# Altium schematic symbol library Schlib_RaspberryPi.SchLib: 2 symbols
Pins are listed as number, name and electrical type; pins without a type are passive.

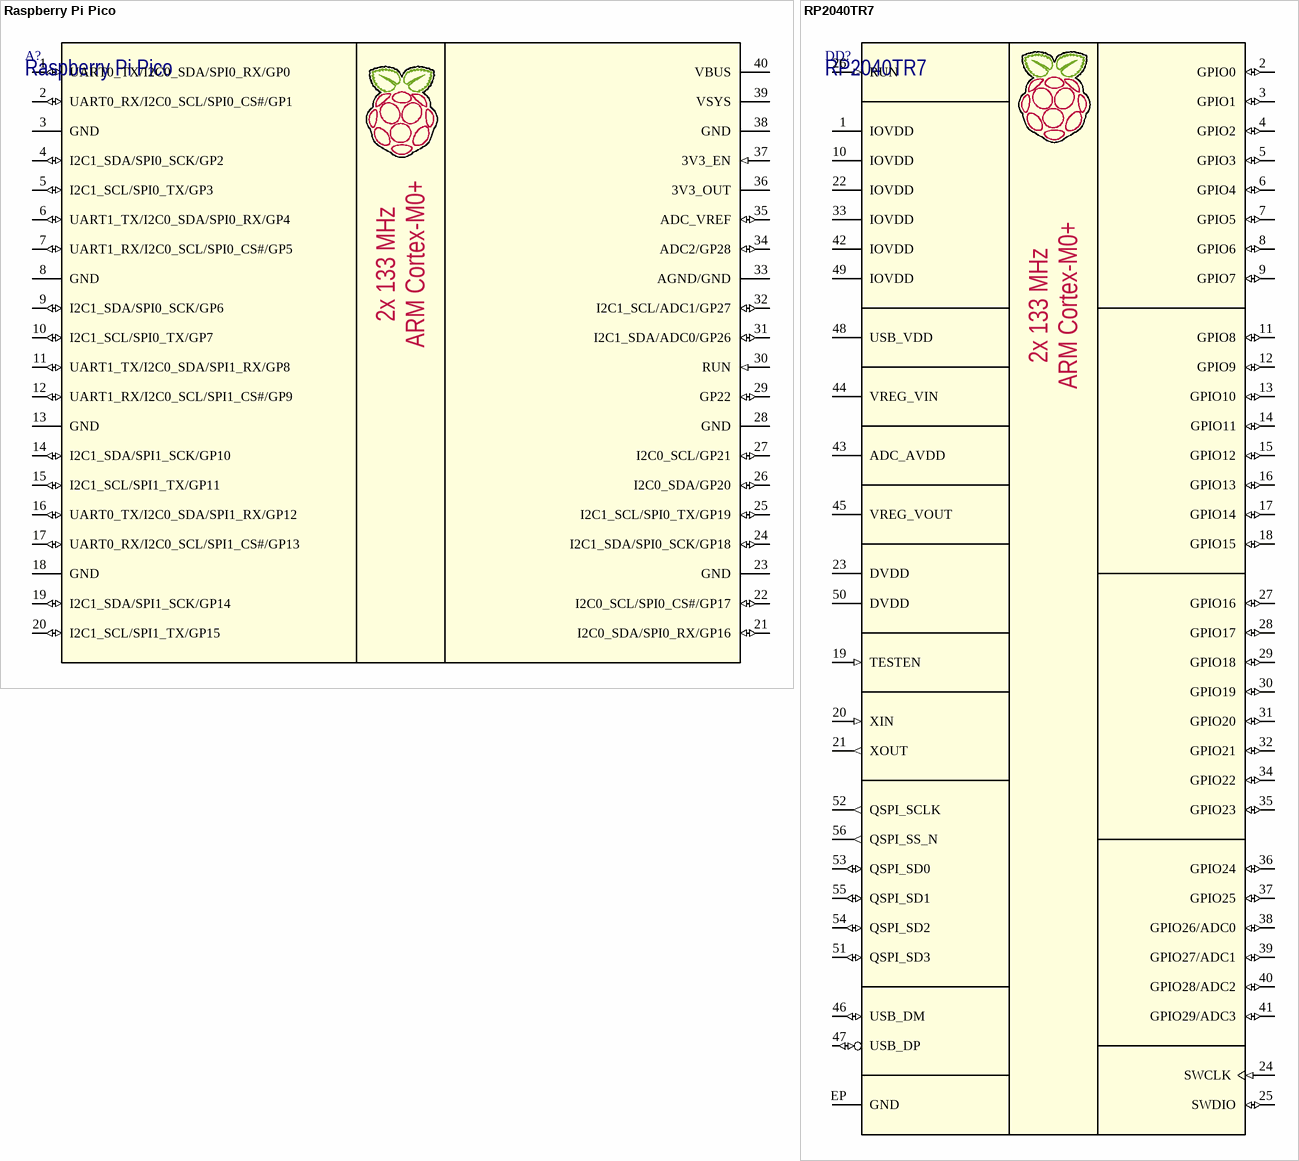
[diagram p0: symbols Raspberry Pi Pico to RP2040TR7]

## Raspberry Pi Pico
designator A?
Board Raspberry Pi Pico; Part Number: Raspberry Pi Pico; Manufacturer: Raspberry Pi
footprint Raspberry_Pi_Pico
pins: 1 UART0_TX/I2C0_SDA/SPI0_RX/GP0 (io), 2 UART0_RX/I2C0_SCL/SPI0_CS#/GP1 (io), 3 GND (power), 4 I2C1_SDA/SPI0_SCK/GP2 (io), 5 I2C1_SCL/SPI0_TX/GP3 (io), 6 UART1_TX/I2C0_SDA/SPI0_RX/GP4 (io), 7 UART1_RX/I2C0_SCL/SPI0_CS#/GP5 (io), 8 GND (power), 9 I2C1_SDA/SPI0_SCK/GP6 (io), 10 I2C1_SCL/SPI0_TX/GP7 (io), 11 UART1_TX/I2C0_SDA/SPI1_RX/GP8 (io), 12 UART1_RX/I2C0_SCL/SPI1_CS#/GP9 (io), 13 GND (power), 14 I2C1_SDA/SPI1_SCK/GP10 (io), 15 I2C1_SCL/SPI1_TX/GP11 (io), 16 UART0_TX/I2C0_SDA/SPI1_RX/GP12 (io), 17 UART0_RX/I2C0_SCL/SPI1_CS#/GP13 (io), 18 GND (power), 19 I2C1_SDA/SPI1_SCK/GP14 (io), 20 I2C1_SCL/SPI1_TX/GP15 (io), 21 I2C0_SDA/SPI0_RX/GP16 (io), 22 I2C0_SCL/SPI0_CS#/GP17 (io), 23 GND (power), 24 I2C1_SDA/SPI0_SCK/GP18 (io), 25 I2C1_SCL/SPI0_TX/GP19 (io), 26 I2C0_SDA/GP20 (io), 27 I2C0_SCL/GP21 (io), 28 GND (power), 29 GP22 (io), 30 RUN (in), 31 I2C1_SDA/ADC0/GP26 (io), 32 I2C1_SCL/ADC1/GP27 (io), 33 AGND/GND (power), 34 ADC2/GP28 (io), 35 ADC_VREF (io), 36 3V3_OUT (power), 37 3V3_EN (in), 38 GND (power), 39 VSYS (power), 40 VBUS (power)
text: 2x 133 MHz; ARM Cortex-M0+

## RP2040TR7
designator DD?
ARM Cortex-M0 MCU 2x133MHz; Manufacturer: Raspberry Pi; Package: QFN-56; Part Number: RP2040TR7
footprint QFN56_RP2040 (QFN, 56-Leads, Body 7,00x7,00mm, Pitch 0,40mm, Thermal Pad 3,10x3,10mm, IPC Medium Density)
pins: 1 IOVDD (power), 2 GPIO0 (io), 3 GPIO1 (io), 4 GPIO2 (io), 5 GPIO3 (io), 6 GPIO4 (io), 7 GPIO5 (io), 8 GPIO6 (io), 9 GPIO7 (io), 10 IOVDD (power), 11 GPIO8 (io), 12 GPIO9 (io), 13 GPIO10 (io), 14 GPIO11 (io), 15 GPIO12 (io), 16 GPIO13 (io), 17 GPIO14 (io), 18 GPIO15 (io), 19 TESTEN (in), 20 XIN (in), 21 XOUT (out), 22 IOVDD (power), 23 DVDD (power), 24 SWCLK (in), 25 SWDIO (io), 26 RUN (in), 27 GPIO16 (io), 28 GPIO17 (io), 29 GPIO18 (io), 30 GPIO19 (io), 31 GPIO20 (io), 32 GPIO21 (io), 33 IOVDD (power), 34 GPIO22 (io), 35 GPIO23 (io), 36 GPIO24 (io), 37 GPIO25 (io), 38 GPIO26/ADC0 (io), 39 GPIO27/ADC1 (io), 40 GPIO28/ADC2 (io), 41 GPIO29/ADC3 (io), 42 IOVDD (power), 43 ADC_AVDD (power), 44 VREG_VIN (power), 45 VREG_VOUT (power), 46 USB_DM (io), 47 USB_DP (io), 48 USB_VDD (power), 49 IOVDD (power), 50 DVDD (power), 51 QSPI_SD3 (io), 52 QSPI_SCLK (out), 53 QSPI_SD0 (io), 54 QSPI_SD2 (io), 55 QSPI_SD1 (io), 56 QSPI_SS_N (out), EP GND (power)
text: 2x 133 MHz; ARM Cortex-M0+